# Altium schematic symbol library ERJ-P06D3300V.SchLib: 1 symbol
Pins are listed as number, name and electrical type; pins without a type are passive.

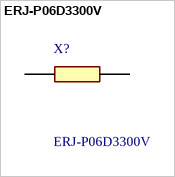
[diagram p0: symbol ERJ-P06D3300V]

## ERJ-P06D3300V
designator X?
Thick Film Resistors - SMD 0805 330ohms 0.5W 0.5% AEC-Q200; Manufacturer_Name: Panasonic; Geometry.Height: 0.7mm; Manufacturer_Part_Number: ERJ-P06D3300V; Mouser Part Number: 667-ERJ-P06D3300V; Mouser Price/Stock: https://www.mouser.co.uk/ProductDetail/Panasonic/ERJ-P06D3300V?qs=18kBAoNi3c%252B2wi%2FiqZa%2Fkw%3D%3D; Arrow Part Number: *; Arrow Price/Stock: *; Datasheet Link: http://industrial.panasonic.com/cdbs/www-data/pdf/RDA0000/AOA0000C102.pdf
footprint ERJP06D1000V
pins: 1, 2